# Altium footprint library Remoter.PcbLib: 26 footprints (part 1 of 2)
Each footprint in its own frame and in the unit in brackets; x right, y up, seen from the top. Pads: shape width x height; smd on the part's side, far side on the other; paste and mask are expansions set on the pad; w line width, h text height; cw(c..) or ccw(c..) is an arc to the next point about the centre after c.
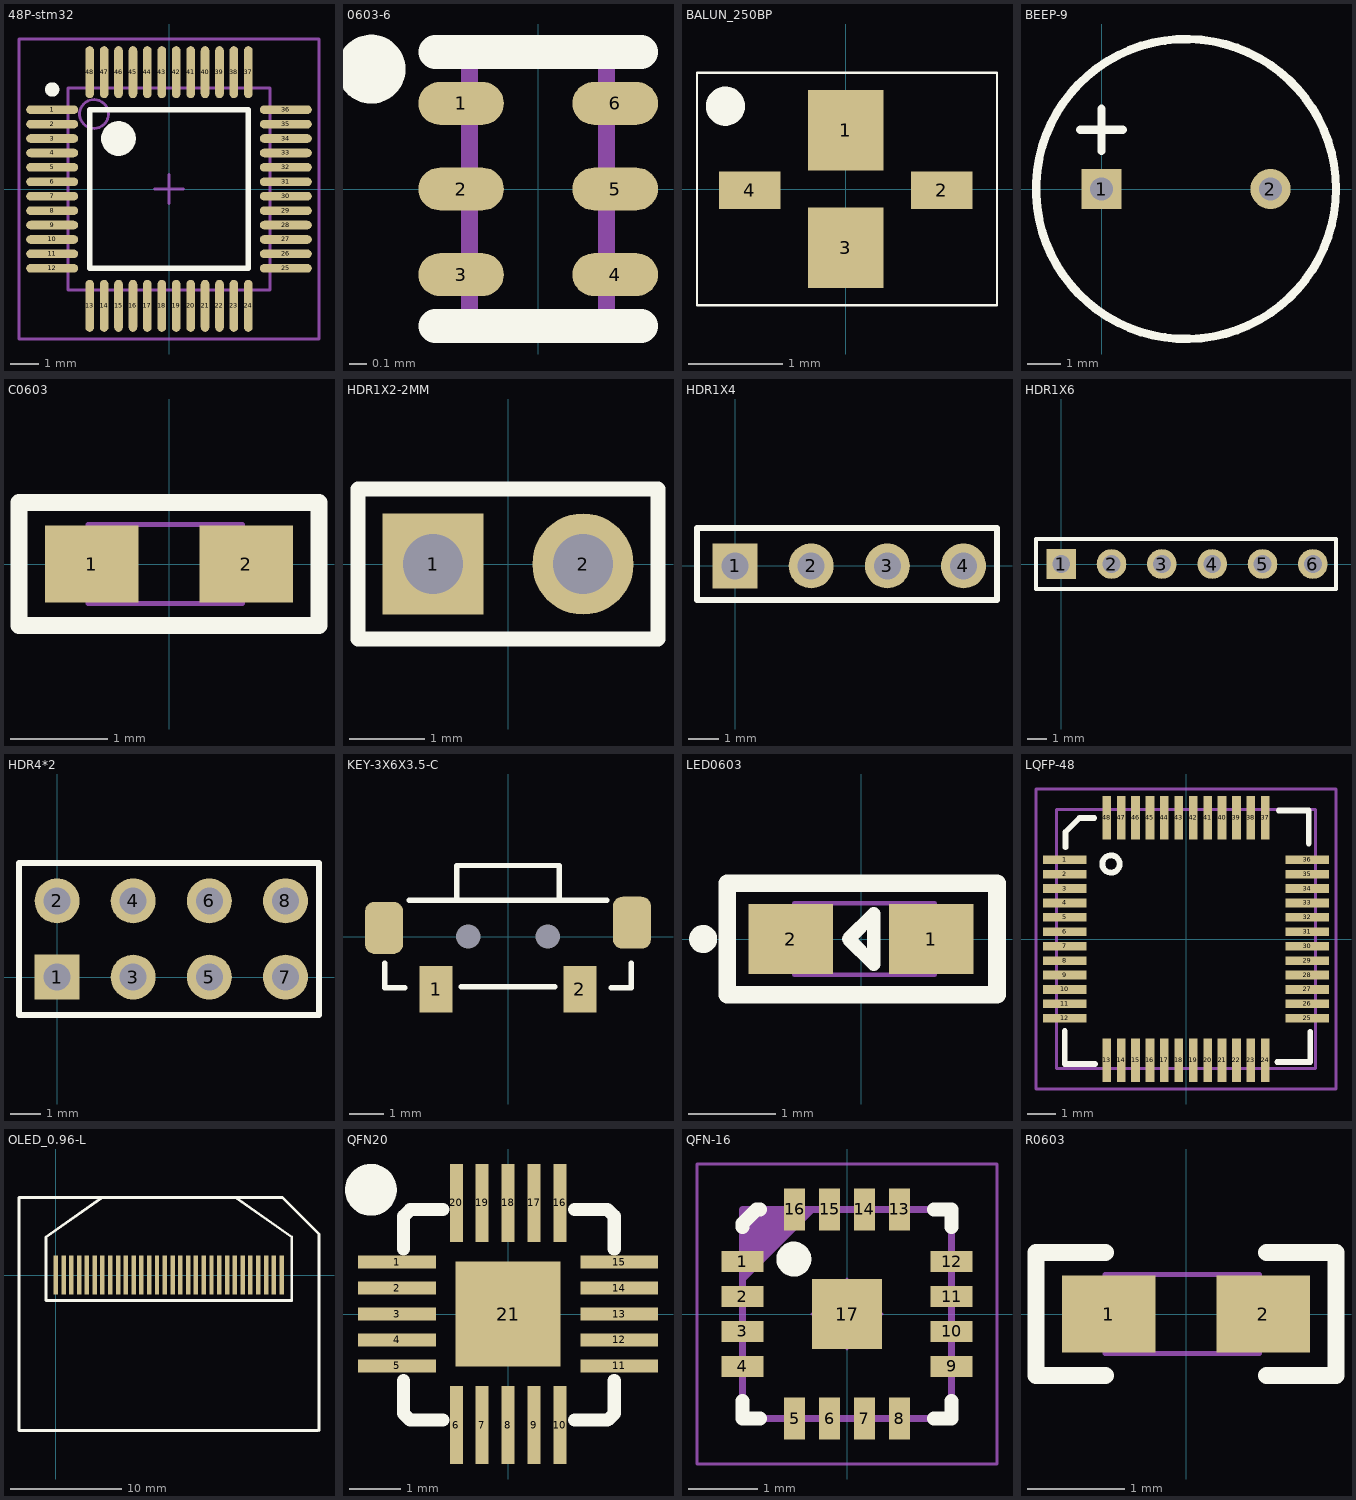
[diagram p0: the footprints below, top view; thin cyan lines are the x and y axes]

## 48P-stm32 [mm]
pads (48):
  oval 1.8x0.3 smd: 1(-4.05,2.75) 2(-4.05,2.25) 3(-4.05,1.75) 4(-4.05,1.25) 5(-4.05,0.75) 6(-4.05,0.25) 7(-4.05,-0.25) 8(-4.05,-0.75) 9(-4.05,-1.25) 10(-4.05,-1.75) 11(-4.05,-2.25) 12(-4.05,-2.75) 25(4.05,-2.75) 26(4.05,-2.25) 27(4.05,-1.75) 28(4.05,-1.25) 29(4.05,-0.75) 30(4.05,-0.25) 31(4.05,0.25) 32(4.05,0.75) 33(4.05,1.25) 34(4.05,1.75) 35(4.05,2.25) 36(4.05,2.75)
  oval 0.3x1.8 smd: 13(-2.75,-4.05) 14(-2.25,-4.05) 15(-1.75,-4.05) 16(-1.25,-4.05) 17(-0.75,-4.05) 18(-0.25,-4.05) 19(0.25,-4.05) 20(0.75,-4.05) 21(1.25,-4.05) 22(1.75,-4.05) 23(2.25,-4.05) 24(2.75,-4.05) 37(2.75,4.05) 38(2.25,4.05) 39(1.75,4.05) 40(1.25,4.05) 41(0.75,4.05) 42(0.25,4.05) 43(-0.25,4.05) 44(-0.75,4.05) 45(-1.25,4.05) 46(-1.75,4.05) 47(-2.25,4.05) 48(-2.75,4.05)
Top Overlay:
  circle w0.25: c-4.05,3.45 r0.125
  circle w0.6: c-1.75,1.75 r0.3
  lines w0.2: -2.75,-2.75 -2.75,2.75 2.75,2.75 2.75,-2.75 -2.75,-2.75
Mechanical 13:
  circle w0.1: c-2.6,2.6 r0.5
  lines w0.1: -3.5,-3.5 -3.5,3.5 3.5,3.5 3.5,-3.5 -3.5,-3.5
Mechanical 15:
  lines w0.1: -0.5,0 0.5,0 ; 0,-0.5 0,0.5 ; -5.2,-5.2 -5.2,5.2 5.2,5.2 5.2,-5.2 -5.2,-5.2
3D body: height 1.6, standoff 0, extent -3.5,-3.5 3.5,3.5

## 0603-6 [mm]
pads (6):
  oval 0.5x0.25 smd: 1(-0.45,0.5) 2(-0.45,0) 3(-0.45,-0.5) 4(0.45,-0.5) 5(0.45,0) 6(0.45,0.5)
Top Overlay:
  circle w0.25: c-0.976,0.7 r0.076
  lines w0.2: -0.6,-0.8 0.6,-0.8 ; -0.6,0.8 0.6,0.8
Mechanical 13:
  lines w0.1: -0.4,-0.8 -0.4,0.8 0.4,0.8 0.4,-0.8 -0.4,-0.8
3D body "User Library-2450BM14A0002.STEP": height 0.6, standoff 0, extent -0.4,-0.8 0.4,0.8

## BALUN_250BP [mm]
pads (4):
  rect 0.8x0.85 smd: 1(0,0.622) 3(0,-0.622)
  rect 0.65x0.4 smd: 2(1.016,-0.013) 4(-1.016,-0.013)
Top Overlay:
  circle w0.254: c-1.274,0.876 r0.08
  lines w0.025: -1.575,-1.232 1.6,-1.232 1.6,1.232 -1.575,1.232 -1.575,-1.232
3D body "User Library-X2Y_0805_(X15).STEP": height 1.02, standoff 0, extent -1.016,-0.649 1.016,0.623

## BEEP-9 [mm]
pads (2):
  rect 1.2x1.2 hole 0.7: 1(0,0)
  round 1.2 hole 0.7: 2(5.08,0)
Top Overlay:
  circle w0.254: c2.54,0 r4.51
  lines w0.254: -0.635,1.778 0.635,1.778 ; 0,1.143 0,2.413
3D body "蜂鸣器.STEP": height 5, standoff -6, extent -1.976,-4.492 7.024,4.508

## C0603 [mm]
pads (2):
  rect 0.965x0.8 smd: 1(-0.8,0) 2(0.8,0)
Top Overlay:
  lines w0.178: -1.549,-0.635 1.549,-0.635 1.549,0.635 -1.549,0.635 -1.549,-0.635
Mechanical 13:
  lines w0.05: -0.838,-0.406 0.762,-0.406 0.762,0.406 -0.838,0.406 -0.838,-0.406
3D body "User Library-User Library-0603_Cap.STEP": height 0.8, standoff 0, extent -1.23,-0.4 1.23,0.4

## HDR1X2-2MM [mm]
pads (2):
  rect 1.35x1.35 hole 0.8: 1(-1,0)
  round 1.35 hole 0.8: 2(1,0)
Top Overlay:
  lines w0.2: -2,-1 -2,1 2,1 2,-1 -2,-1

## HDR1X4 [mm]
pads (4):
  rect 1.5x1.5 hole 0.9: 1(0,0)
  round 1.5 hole 0.9: 2(2.54,0) 3(5.08,0) 4(7.62,0)
Top Overlay:
  lines w0.2: -1.27,-1.143 -1.27,1.27 8.738,1.27 8.738,-1.143 -1.27,-1.143

## HDR1X6 [mm]
pads (6):
  rect 1.5x1.5 hole 0.9: 1(0,0)
  round 1.5 hole 0.9: 2(2.54,0) 3(5.08,0) 4(7.62,0) 5(10.16,0) 6(12.7,0)
Top Overlay:
  lines w0.2: -1.27,-1.27 -1.27,1.27 13.868,1.27 13.868,-1.27 -1.27,-1.27

## HDR4*2 [mm]
pads (8):
  rect 1.5x1.5 hole 0.9: 1(0,0)
  round 1.5 hole 0.9: 2(0,2.54) 3(2.54,0) 4(2.54,2.54) 5(5.08,0) 6(5.08,2.54) 7(7.62,0) 8(7.62,2.54)
Top Overlay:
  lines w0.2: -1.27,-1.27 8.738,-1.27 8.738,3.81 -1.27,3.81 -1.27,-1.27

## KEY-3X6X3.5-C [mm]
pads (6):
  rect 0.95x1.34 smd: 1(-2.075,-1.52) 2(2.075,-1.52)
  rrect50% 1.1x1.5 smd: ""(-3.575,0.25) ""(3.575,0.4)
  round 0 hole 0.7 unplated: ""(-1.15,0) ""(1.15,0)
Top Overlay:
  lines w0.152: -3.556,-0.762 -3.556,-1.473 -2.972,-1.473 ; -2.85,1.05 2.85,1.05 ; -1.475,1.052 -1.475,2.05 1.475,2.05 1.475,1.052 ; -1.35,-1.448 1.35,-1.45 ; 2.972,-1.473 3.556,-1.473 3.556,-0.762
3D body "Switch - TL3330AF130QG (Tact Switch, SMD).STEP": height 3.5, standoff 0, extent -3.9,-1.727 3.9,1.873

## LED0603 [mm]
pads (2):
  rect 0.965x0.8 smd: 1(0.8,0) 2(-0.8,0)
Top Overlay:
  circle w0.178: c-1.8,0 r0.07
  lines w0.152: -0.144,0 0.146,-0.289 0.146,0.289 -0.144,0
  lines w0.2: -1.527,-0.635 1.549,-0.635 1.549,0.635 -1.527,0.635 -1.527,-0.635
Mechanical 13:
  lines w0.05: -0.762,-0.406 0.838,-0.406 0.838,0.406 -0.762,0.406 -0.762,-0.406
3D body "User Library-LED_0603_B.STEP": height 0.6, standoff 0, extent -0.8,-0.4 0.8,0.4

## LQFP-48 [mm]
pads (48):
  rect 1.5x0.3 smd: 1(-4.2,2.75) 2(-4.2,2.25) 3(-4.2,1.75) 4(-4.2,1.25) 5(-4.2,0.75) 6(-4.2,0.25) 7(-4.2,-0.25) 8(-4.2,-0.75) 9(-4.2,-1.25) 10(-4.2,-1.75) 11(-4.2,-2.25) 12(-4.2,-2.75) 25(4.2,-2.75) 26(4.2,-2.25) 27(4.2,-1.75) 28(4.2,-1.25) 29(4.2,-0.75) 30(4.2,-0.25) 31(4.2,0.25) 32(4.2,0.75) 33(4.2,1.25) 34(4.2,1.75) 35(4.2,2.25) 36(4.2,2.75)
  rect 0.3x1.5 smd: 13(-2.75,-4.2) 14(-2.25,-4.2) 15(-1.75,-4.2) 16(-1.25,-4.2) 17(-0.75,-4.2) 18(-0.25,-4.2) 19(0.25,-4.2) 20(0.75,-4.2) 21(1.25,-4.2) 22(1.75,-4.2) 23(2.25,-4.2) 24(2.75,-4.2) 37(2.75,4.2) 38(2.25,4.2) 39(1.75,4.2) 40(1.25,4.2) 41(0.75,4.2) 42(0.25,4.2) 43(-0.25,4.2) 44(-0.75,4.2) 45(-1.25,4.2) 46(-1.75,4.2) 47(-2.25,4.2) 48(-2.75,4.2)
Top Overlay:
  circle w0.2: c-2.6,2.6 r0.3
  lines w0.2: -4.2,-3.194 -4.2,-4.337 -3.159,-4.337 ; -4.182,3.182 -4.182,3.708 -3.692,4.198 -3.184,4.198 ; 3.166,-4.26 4.309,-4.26 4.309,-3.219 ; 3.217,4.452 4.258,4.452 4.258,3.309
Mechanical 13:
  lines w0.1: -4.496,-4.496 4.496,-4.496 4.496,4.496 -4.496,4.496 -4.496,-4.496
Mechanical 15:
  lines w0.1: -5.2,-5.2 -5.2,5.2 5.2,5.2 5.2,-5.2 -5.2,-5.2
3D body "User Library-FT2232C (LQFP-44).STEP": height 1.57, standoff -0.03, extent -4.5,-4.5 4.5,4.5

## OLED_0.96-L [mm]
pads (30):
  rect 0.4x3.5 smd: 1(20.3,0) 2(19.6,0) 3(18.9,0) 4(18.2,0) 5(17.5,0) 6(16.8,0) 7(16.1,0) 8(15.4,0) 9(14.7,0) 10(14,0) 11(13.3,0) 12(12.6,0) 13(11.9,0) 14(11.2,0) 15(10.5,0) 16(9.8,0) 17(9.1,0) 18(8.4,0) 19(7.7,0) 20(7,0) 21(6.3,0) 22(5.6,0) 23(4.9,0) 24(4.2,0) 25(3.5,0) 26(2.8,0) 27(2.1,0) 28(1.4,0) 29(0.7,0) 30(0,0)
Top Overlay:
  lines w0.254: 4.191,6.985 -0.889,3.429 -0.889,-2.286 21.209,-2.286 21.209,3.429 16.129,6.985 ; 4.318,-13.97 23.533,-13.97 ; 4.572,-13.97 -3.302,-13.97 -3.302,6.985 20.379,6.985 23.66,3.704 23.66,-13.97
3D body "User Library-128x64I2COLEDDisplayAdafruit.STEP": height 1.46, standoff -0.05, extent -3.014,-14.046 23.486,5.228

## QFN20 [mm]
pads (21):
  rect 1.5x0.25 smd: 1(-2.143,1) 2(-2.143,0.5) 3(-2.143,0) 4(-2.143,-0.5) 5(-2.143,-1) 11(2.143,-1) 12(2.143,-0.5) 13(2.143,0) 14(2.143,0.5) 15(2.143,1)
  rect 0.25x1.5 smd: 6(-1,-2.143) 7(-0.5,-2.143) 8(0,-2.143) 9(0.5,-2.143) 10(1,-2.143) 16(1,2.143) 17(0.5,2.143) 18(0,2.143) 19(-0.5,2.143) 20(-1,2.143)
  rect 2.032x2.032 smd: 21(0,0)
Top Overlay:
  circle w0.5: c-2.647,2.397 r0.25
  lines w0.254: -2.016,-1.286 -2.016,-1.921 -1.889,-2.048 -1.254,-2.048 -1.762,-2.048 ; -2.016,1.254 -2.016,1.889 -1.889,2.016 -1.254,2.016 -1.762,2.016 ; 1.286,-2.048 1.921,-2.048 2.048,-1.921 2.048,-1.286 ; 1.794,2.016 1.286,2.016 1.921,2.016 2.048,1.889 2.048,1.254
3D body "SW3dPS-QFN-20.STEP": height 0.62, standoff -0.08, extent -1.5,-1.5 1.5,1.5

## QFN-16 [mm]
pads (17):
  rect 0.6x0.3 smd: 1(-1.5,0.75) 2(-1.5,0.25) 3(-1.5,-0.25) 4(-1.5,-0.75) 9(1.5,-0.75) 10(1.5,-0.25) 11(1.5,0.25) 12(1.5,0.75)
  rect 0.3x0.6 smd: 5(-0.75,-1.5) 6(-0.25,-1.5) 7(0.25,-1.5) 8(0.75,-1.5) 13(0.75,1.5) 14(0.25,1.5) 15(-0.25,1.5) 16(-0.75,1.5)
  rect 1x1 smd: 17(0,0)
Top Overlay:
  circle w0.25: c-0.762,0.787 r0.125
  lines w0.2: -1.5,-1.25 -1.5,-1.5 -1.25,-1.5 ; -1.5,1.25 -1.5,1.3 -1.3,1.5 -1.25,1.5 ; 1.25,-1.5 1.5,-1.5 1.5,-1.25 ; 1.25,1.5 1.5,1.5 1.5,1.25
Mechanical 13:
  lines w0.1: -1.5,0.5 -0.5,1.5 ; -1.5,0.6 -0.6,1.5 ; -1.5,0.7 -0.7,1.5 ; -1.5,0.8 -0.8,1.5 ; -1.5,0.9 -0.9,1.5 ; -1.5,1 -1,1.5 ; -1.5,1.1 -1.1,1.5 ; -1.5,1.2 -1.2,1.5 ; -1.5,1.3 -1.3,1.5 ; -1.5,1.4 -1.4,1.5 ; -1.5,-1.5 1.5,-1.5 1.5,1.5 -1.5,1.5 -1.5,-1.5
Mechanical 15:
  circle w0.05: c0,0 r0.35
  lines w0.05: -0.5,0 0.5,0 ; 0,-0.5 0,0.5 ; -2.15,-2.15 -2.15,2.15 2.15,2.15 2.15,-2.15 -2.15,-2.15
3D body "User Library-QFN-16.STEP": height 0.9, standoff 0, extent -1.501,-1.501 1.501,1.501

## R0603 [mm]
pads (2):
  rect 0.965x0.8 smd: 1(-0.8,0) 2(0.8,0)
Top Overlay:
  lines w0.178: -0.835,-0.635 -1.549,-0.635 -1.549,0.635 -0.835,0.635 ; 0.835,-0.635 1.549,-0.635 1.549,0.635 0.835,0.635
Mechanical 13:
  lines w0.05: -0.838,-0.406 0.762,-0.406 0.762,0.406 -0.838,0.406 -0.838,-0.406
3D body "User Library-User Library-0603_Res1-1.STEP": height 0.8, standoff 0, extent -1.23,-0.4 1.23,0.4